# Altium schematic symbol library 0402_Ceramic_Capacitor.SchLib: 1 symbol
Pins are listed as number, name and electrical type; pins without a type are passive.

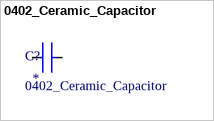
[diagram p0: symbol 0402_Ceramic_Capacitor]

## 0402_Ceramic_Capacitor
designator C?
LCSC: *
footprint 0402_Ceramic_Capacitor
pins: 1, 2